# Altium footprint library BELL.PcbLib: 1 footprints
Each footprint in its own frame and in the unit in brackets; x right, y up, seen from the top. Pads: shape width x height; smd on the part's side, far side on the other; paste and mask are expansions set on the pad; w line width, h text height; cw(c..) or ccw(c..) is an arc to the next point about the centre after c.
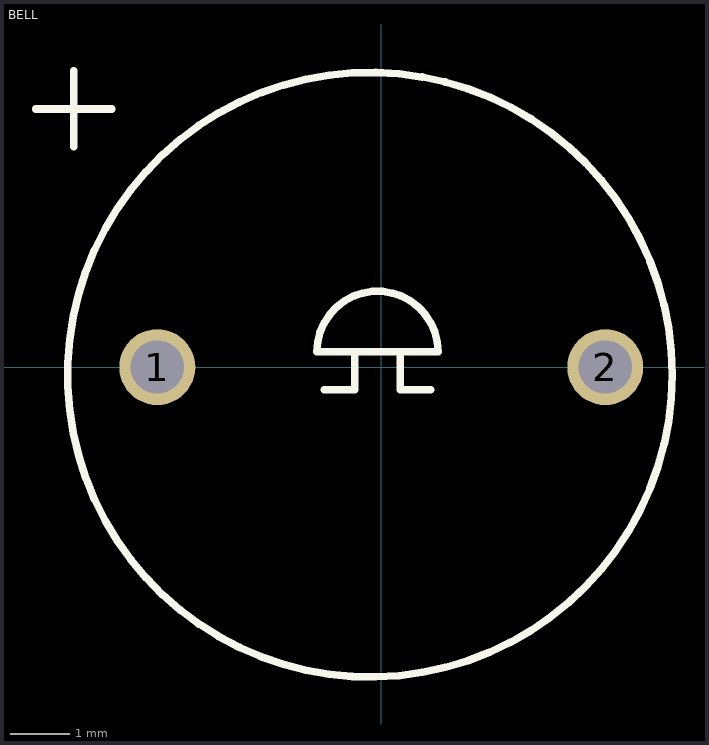
[diagram p0: the footprint, top view; thin cyan lines are the x and y axes]

## BELL [mil] "蜂鸣器"
pads (2):
  round 50 hole 35 paste+0: 1(-147.5,0) 2(147.5,0)
Top Overlay:
  circle w5: c-7.5,-5 r199.06
  lines w5: -227.5,170 -177.5,170 ; -202.5,145 -202.5,195 ; -37.5,-15 -17.5,-15 -17.5,10 ; 12.5,10 12.5,-15 32.5,-15 ; -42.5,10 cw(c-2.5,10) 37.5,10 -42.5,10